# EAGLE library part TC4452 (library 4534)
CMOS relay driver
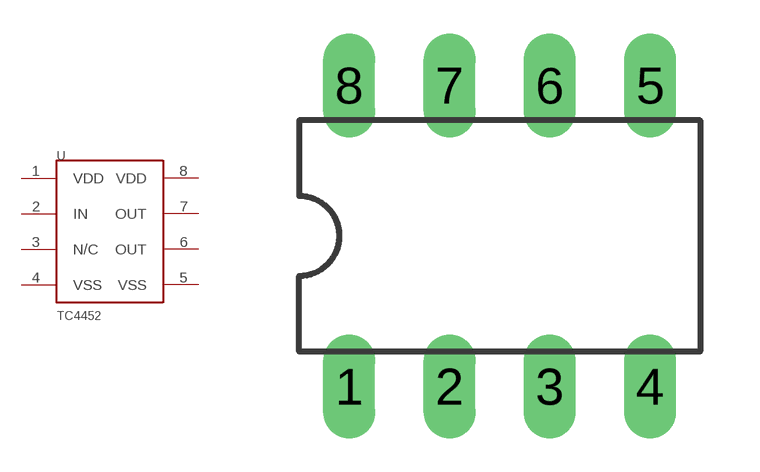
[diagram p11: symbol with the pads of DIL08; footprint DIL08]

Designator prefix -

## TC4452VPA  [DIL08]
1  VDD  pwr
2  IN  in
3  N/C  pas
4  VSS  pwr
5  VSS  pwr
6  OUT  out
7  OUT  out
8  VDD  pwr

## Footprint DIL08 (pad centres in mm)
Dual In Line Package
drill 0.813 long: 1 -3.81,-3.81; 2 -1.27,-3.81; 3 1.27,-3.81; 4 3.81,-3.81; 5 3.81,3.81; 6 1.27,3.81; 7 -1.27,3.81; 8 -3.81,3.81